# Altium footprint library MyPCBConnector.PcbLib: 183 footprints (part 12 of 12)
Each footprint in its own frame and in the unit in brackets; x right, y up, seen from the top. Pads: shape width x height; smd on the part's side, far side on the other; paste and mask are expansions set on the pad; w line width, h text height; cw(c..) or ccw(c..) is an arc to the next point about the centre after c.
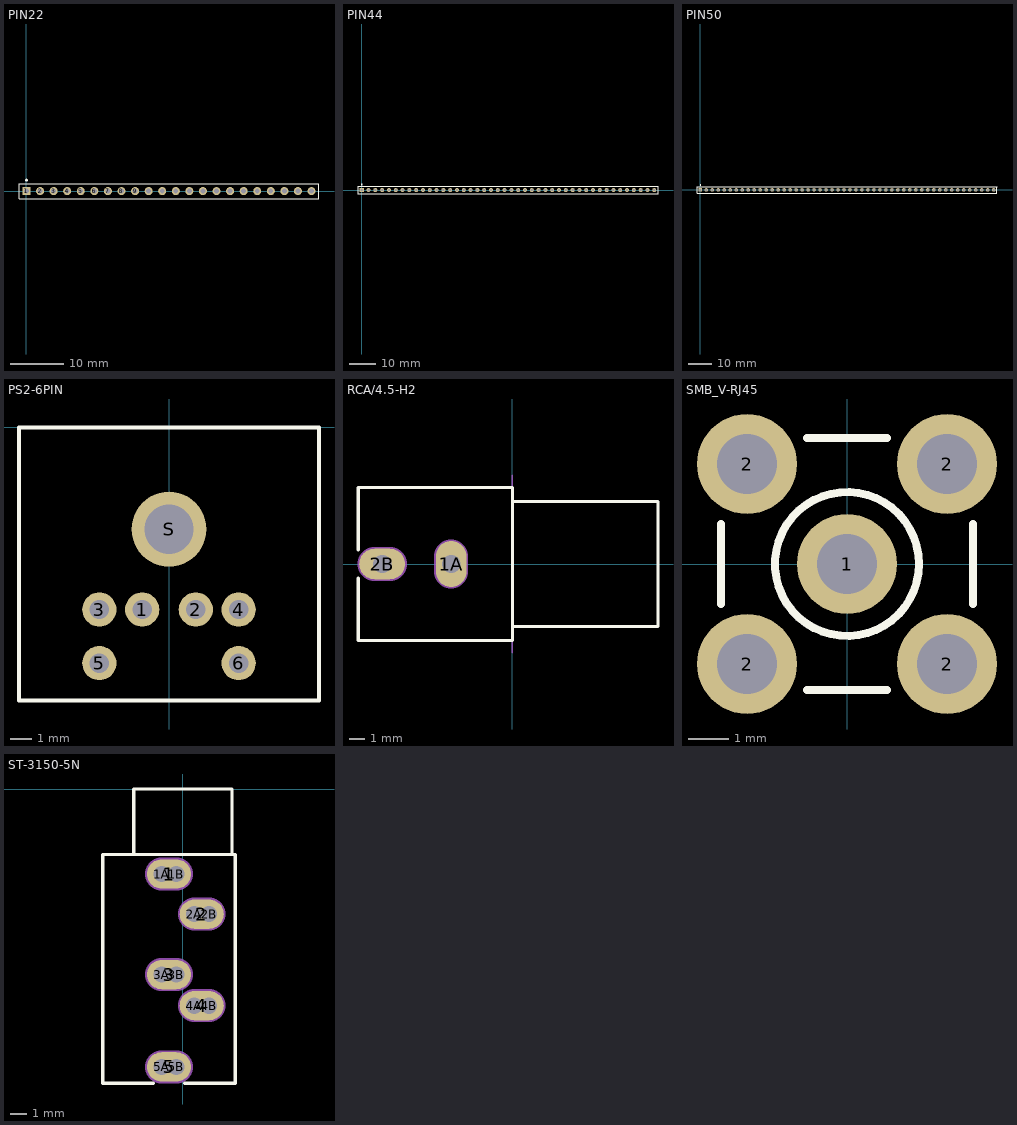
[diagram p11: the footprints below, top view; thin cyan lines are the x and y axes]

## PIN22 [mm] "Connector; Edge; 22 Position"
pads (22):
  rect 1.5x1.5 hole 0.9: 1(0,0)
  round 1.5 hole 0.9: 2(2.54,0) 3(5.08,0) 4(7.62,0) 5(10.16,0) 6(12.7,0) 7(15.24,0) 8(17.78,0) 10(22.86,0) 11(25.4,0) 12(27.94,0) 13(30.48,0) 14(33.02,0) 15(35.56,0) 16(38.1,0) 17(40.64,0) 18(43.18,0) 19(45.72,0) 20(48.26,0) 21(50.8,0) 22(53.34,0)
  oval 1.51x1.5 hole 0.9: 9(20.32,0)
Top Overlay:
  circle w0.25: c0,2.05 r0.125
  lines w0.2: -1.4,-1.4 54.74,-1.4 54.74,1.4 -1.4,1.4 -1.4,-1.4

## PIN44 [mm] "Connector; Edge; 44 Position"
pads (44):
  rect 1.5x1.5 hole 0.9: 1(0,0)
  round 1.5 hole 0.9: 2(2.54,0) 3(5.08,0) 4(7.62,0) 5(10.16,0) 6(12.7,0) 7(15.24,0) 8(17.78,0) 10(22.86,0) 11(25.4,0) 12(27.94,0) 13(30.48,0) 14(33.02,0) 15(35.56,0) 16(38.1,0) 17(40.64,0) 18(43.18,0) 19(45.72,0) 20(48.26,0) 21(50.8,0) 22(53.34,0) 23(55.88,0) 24(58.42,0) 25(60.96,0) 26(63.5,0) 27(66.04,0) 28(68.58,0) 29(71.12,0) 30(73.66,0) 31(76.2,0) 32(78.74,0) 33(81.28,0) 34(83.82,0) 35(86.36,0) 36(88.9,0) 37(91.44,0) 38(93.98,0) 39(96.52,0) 40(99.06,0) 41(101.6,0) 42(104.14,0) 43(106.68,0) 44(109.22,0)
  oval 1.51x1.5 hole 0.9: 9(20.32,0)
Top Overlay:
  circle w0.25: c0,2.05 r0.125
  lines w0.2: -1.4,-1.4 110.62,-1.4 110.62,1.4 -1.4,1.4 -1.4,-1.4

## PIN50 [mm] "Connector; Edge; 50 Position"
pads (50):
  rect 1.5x1.5 hole 0.9: 1(0,0)
  round 1.5 hole 0.9: 2(2.54,0) 3(5.08,0) 4(7.62,0) 5(10.16,0) 6(12.7,0) 7(15.24,0) 8(17.78,0) 9(20.32,0) 10(22.86,0) 11(25.4,0) 12(27.94,0) 13(30.48,0) 14(33.02,0) 15(35.56,0) 16(38.1,0) 17(40.64,0) 18(43.18,0) 19(45.72,0) 20(48.26,0) 22(53.34,0) 23(55.88,0) 24(58.42,0) 25(60.96,0) 26(63.5,0) 27(66.04,0) 28(68.58,0) 29(71.12,0) 30(73.66,0) 31(76.2,0) 32(78.74,0) 33(81.28,0) 34(83.82,0) 35(86.36,0) 36(88.9,0) 37(91.44,0) 38(93.98,0) 39(96.52,0) 40(99.06,0) 41(101.6,0) 42(104.14,0) 43(106.68,0) 44(109.22,0) 45(111.76,0) 46(114.3,0) 47(116.84,0) 48(119.38,0) 49(121.92,0) 50(124.46,0)
  oval 1.51x1.5 hole 0.9: 21(50.8,0)
Top Overlay:
  circle w0.25: c0,2.05 r0.125
  lines w0.2: -1.4,-1.4 -1.4,1.4 125.86,1.4 125.86,-1.4 -1.4,-1.4

## PS2-6PIN [mm] "PS2 Socket, 6 Pin, Through Hole"
pads (7):
  round 1.6 hole 0.9: 1(-1.25,-8.5) 2(1.25,-8.5) 3(-3.25,-8.5) 4(3.25,-8.5) 5(-3.25,-11) 6(3.25,-11)
  round 3.5 hole 2.3: S(0,-4.75)
Top Overlay:
  lines w0.2: -7,-12.75 7,-12.75 7,0 -7,0 -7,-12.75

## RCA/4.5-H2 [mm] "Two Conductor Jack (RCA), Right Angle, Thru-Hole, Body 10 x 10 x 13 mm (WxTxH)"
height 13
pads (2):
  oval 2x3 hole 1.2: 1A(-4,0)
  oval 3x2 hole 1.2: 2B(-8.496,0)
Top Overlay:
  lines w0.2: -10.075,5 -0.018,5 ; -10.057,-0.92 -10.057,-5 0,-5 0,5 ; -10.057,0.92 -10.057,5 ; 0,-4.065 9.5,-4.065 9.5,4.065 0,4.065
Mechanical 1:
  lines w0.1: 0,-5.8 0,5.8
  lines w1.2: -8.996,0 -7.996,0 ; -4,-0.5 -4,0.5
  text "Mech 2 - Clearance, move to internal plane if present" at -10.057,6.342 h0.3
  text "Mech 1 - Slot cut-out" at -10.057,6.842 h0.3
  text "Assign keep-out area to slot" at -10.057,8.342 h0.3
  text "Slot 1.2x2.2mm, PTH" at -10.057,7.342 h0.3
  text "Alert PCB fab to slot details" at -10.057,7.842 h0.3
  text "PCB Edge" at -0.333,-4.618 h0.25
Mechanical 2:
  lines w2.216: -8.996,0 -7.996,0 ; -4,-0.5 -4,0.5

## SMB_V-RJ45 [mm] "Connector; SMB Straight"
pads (5):
  round 2.5 hole 1.5: 1(0,0) 2(-2.5,-2.5) 2(-2.5,2.5) 2(2.5,-2.5) 2(2.5,2.5)
Top Overlay:
  circle w0.2: c0,0 r1.8
  lines w0.2: -3.15,-1 -3.15,1 ; -1,-3.15 1,-3.15 ; -1,3.15 1,3.15 ; 3.15,-1 3.15,1
Mechanical 1:
  circle w0.025: c0,0 r0.2
  circle w0.025: c0,0 r1.05
  circle w0.025: c0,0 r1.8

## ST-3150-5N [mm] "Connector; Stereo Jack, 3.5mm, 5 Position"
pads (15):
  oval 2.7x1.8 all layers, no hole: 1(-0.85,-5.2) 2(1.15,-7.65) 3(-0.85,-11.35) 4(1.15,-13.25) 5(-0.85,-17)
  round 1.2 hole 1: 1A(-1.3,-5.2) 1B(-0.4,-5.2) 2A(0.7,-7.65) 2B(1.6,-7.65) 3A(-1.3,-11.35) 3B(-0.4,-11.35) 4A(0.7,-13.25) 4B(1.6,-13.25) 5A(-1.3,-17) 5B(-0.4,-17)
Top Overlay:
  lines w0.2: -3,-4 -3,0 3,0 3,-4 ; -1.8,-18 -4.9,-18 -4.9,-4 3.2,-4 3.2,-18 0.1,-18
Mechanical 1:
  lines w1: -1.3,-17 -0.4,-17 ; -1.3,-11.35 -0.4,-11.35 ; -1.3,-5.2 -0.4,-5.2 ; 0.7,-13.25 1.6,-13.25 ; 0.7,-7.65 1.6,-7.65
  text "Alert PCB fab to slot details" at -7.226,1.874 h0.3
  text "Slot 1x1.9mm, PTH" at -7.226,1.374 h0.3
  text "Assign keep-out area to slot" at -7.226,2.374 h0.3
  text "Mech 1 - Slot cut-out" at -7.226,0.874 h0.3
  text "Mech 2 - Clearance, move to internal plane if present" at -7.226,0.374 h0.3
Mechanical 2:
  lines w2.016: -1.3,-17 -0.4,-17 ; -1.3,-11.35 -0.4,-11.35 ; -1.3,-5.2 -0.4,-5.2 ; 0.7,-13.25 1.6,-13.25 ; 0.7,-7.65 1.6,-7.65